# Altium schematic symbol library Socket Card.SchLib: 20 symbols
Pins are listed as number, name and electrical type; pins without a type are passive.

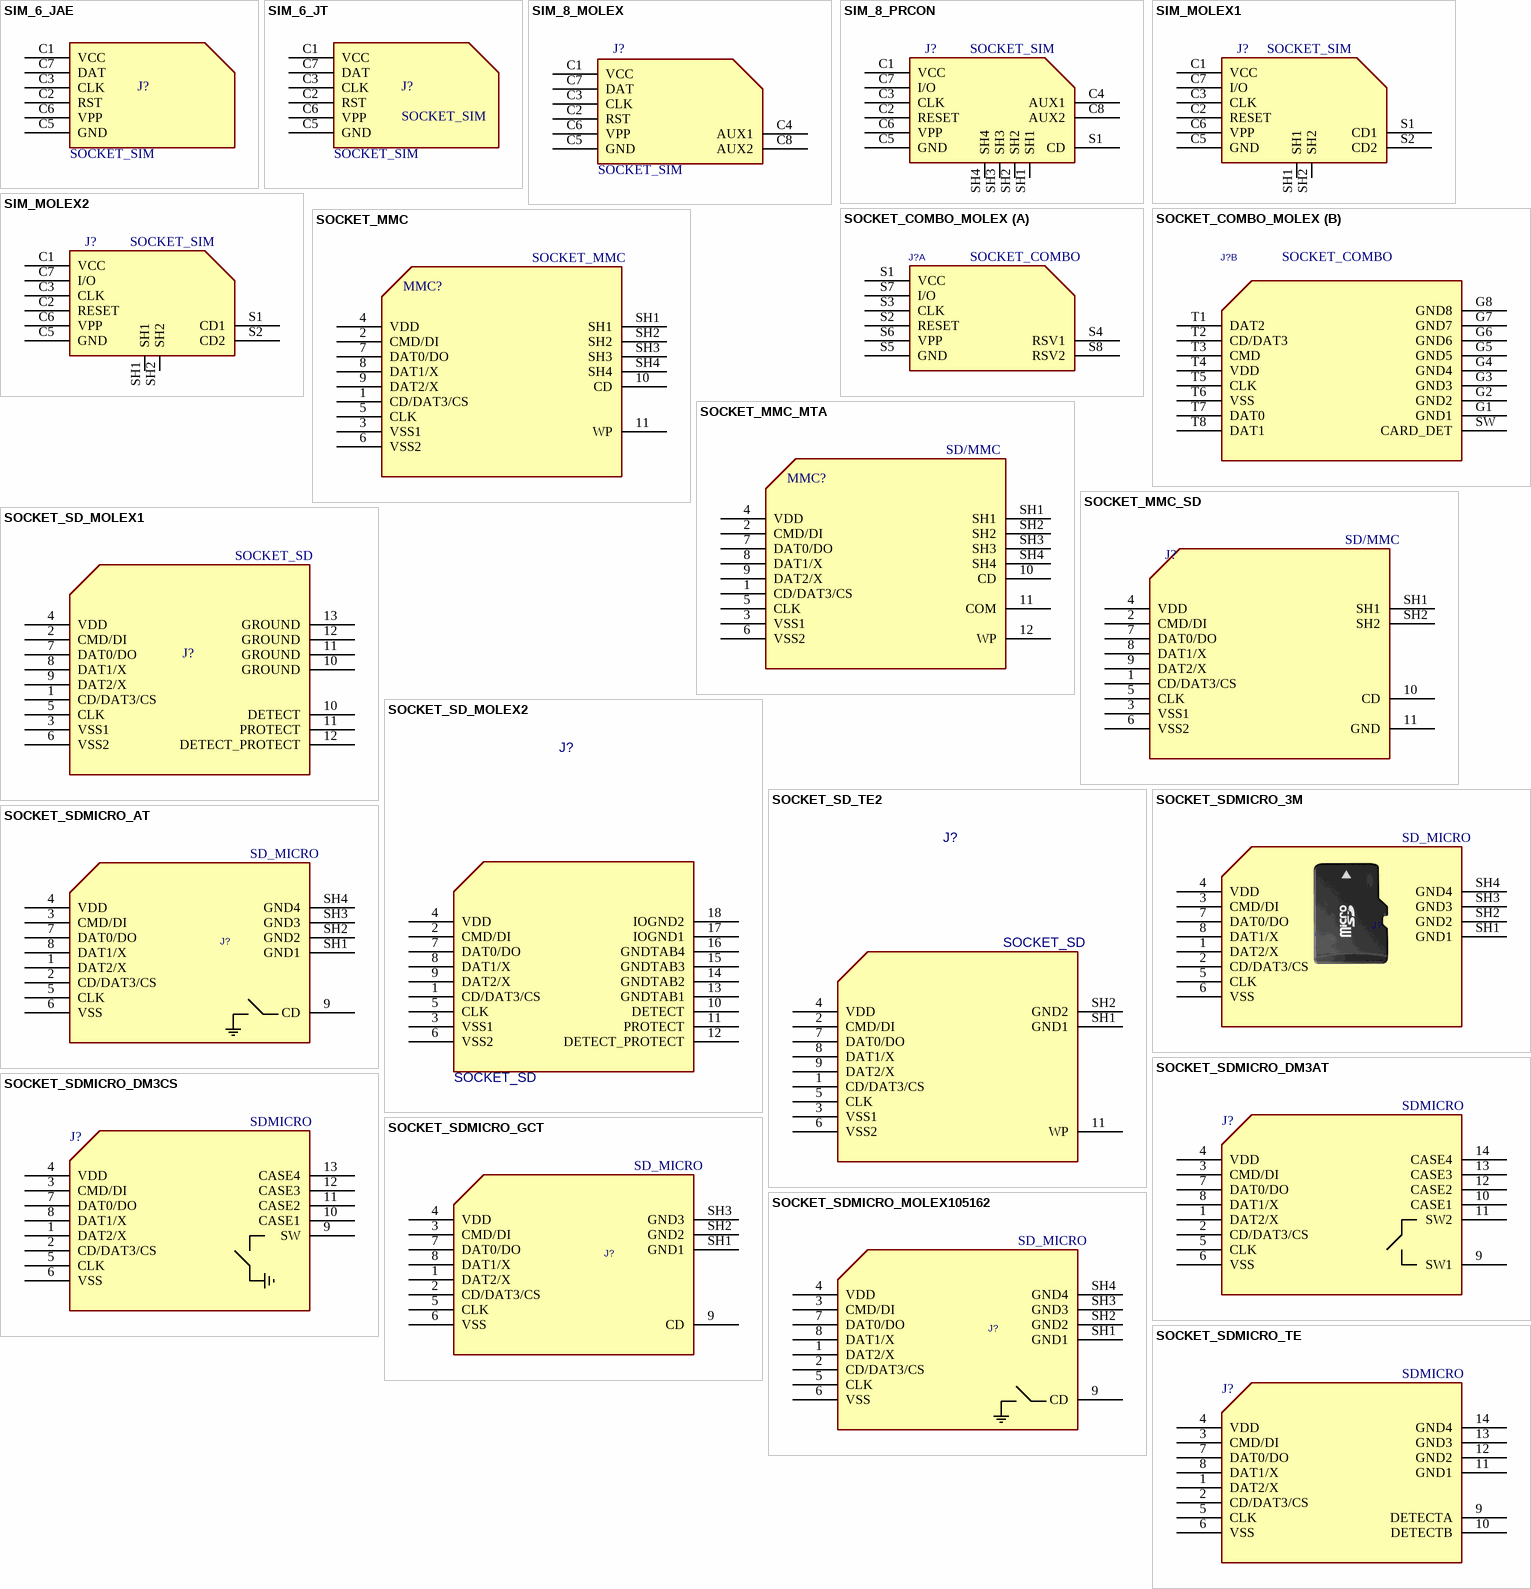
[diagram p0: symbols SIM_6_JAE to SOCKET_SDMICRO_TE]

## SIM_6_JAE
designator J?, comment SOCKET_SIM
SOCKET, SIM MINI, Hinged Lid, exist on Iran; MANF_P#: SF7W006S1AE1000; MANF: JAE; PARAM: Hinged Lid; PRICE: 3$; VALUE: SOCKET_SIM
footprint SIM_MINI_6
pins: C1 VCC, C2 RST, C3 CLK, C5 GND, C6 VPP, C7 DAT

## SIM_6_JT
designator J?, comment SOCKET_SIM
SOCKET, SIM MINI, PUSH-PULL, exist on Iran; MANF: JTCONN; MANF_P#: -; PRICE: 750toman@roboeq; VALUE: SOCKET_SIM
footprint SIM_MINI_6JT (SIM MINI, JTCONN)
pins: C1 VCC, C2 RST, C3 CLK, C5 GND, C6 VPP, C7 DAT

## SIM_8_MOLEX
designator J?, comment SOCKET_SIM
SOCKET, SIM MINI, with Ejector, exist on Iran; MANF: MOLEX; MANF_P#: 91228-3001; VALUE: SOCKET_SIM
footprint SIM_MINI_8_MOLEX (SIM 8P, MOLEX 91228-3001, 2.54mm Pitch ChipSIM Connector with Ejector, 6 Circuits, without Pegs, Yellow Button)
pins: C1 VCC, C2 RST, C3 CLK, C4 AUX1, C5 GND, C6 VPP, C7 DAT, C8 AUX2

## SIM_8_PRCON
designator J?, comment SOCKET_SIM
SOCKET, SIM MINI, PUSH-PUSH, exist on Iran; MANF: PROCONN, GCT; MANF_P#: SPPN08-A0-1080, SIM4056; PRICE: 2000t@JAVAN, 2500toman@eca; VALUE: SOCKET_SIM
footprint SIM_MINI_GCT (SIM MINI, GCT SIM4056 pitch: 1.27mm 26.3x19.3mm)
pins: C1 VCC, C2 RESET, C3 CLK, C4 AUX1, C5 GND, C6 VPP, C7 I/O, C8 AUX2, S1 CD, SH1, SH2, SH3, SH4

## SIM_MOLEX1
designator J?, comment SOCKET_SIM
SOCKET, SIM MINI, w/o Locator; MANF: Molex, ATTEND; MANF_P#: 47553-0001, 115A-ADA0-R02; PRICE: 1=2.94, 10=2.822, 25=2.5868, 50=2.4694, 100=2.3518, 250=2.05784 (USD); VALUE: SOCKET_SIM
footprint SIM_MINI_MOLEX1 (SIM MINI, MOLEX PUSH PUSH pitch: 1.27mm 26.3x19.3mm)
pins: C1 VCC, C2 RESET, C3 CLK, C5 GND, C6 VPP, C7 I/O, S1 CD1, S2 CD2, SH1, SH2

## SIM_MOLEX2
designator J?, comment SOCKET_SIM
SOCKET, SIM MINI, with Locator; MANF: Molex; MANF_P#: 47553-1001; PRICE: 1=2.94, 10=2.822, 25=2.5868, 50=2.4694, 100=2.3518, 250=2.05784 (USD); VALUE: SOCKET_SIM
footprint SIM_MINI_MOLEX2 (SIM MINI, with Locator, MOLEX 47553-1001)
pins: C1 VCC, C2 RESET, C3 CLK, C5 GND, C6 VPP, C7 I/O, S1 CD1, S2 CD2, SH1, SH2

## SOCKET_COMBO_MOLEX
designator J?, comment SOCKET_COMBO
SOCKET, MICROSIM+SD, MOLEX 104168-1620; MANF: MOLEX; MANF_P#: 104168-1620; VALUE: SOCKET_COMBO
footprint SIMCOMBO_MOLEX (MOLEX MICROSIM+SD SOCKET 104168-1620)
part A pins: S1 VCC, S2 RESET, S3 CLK, S4 RSV1, S5 GND, S6 VPP, S7 I/O, S8 RSV2
part B pins: G1 GND1, G2 GND2, G3 GND3, G4 GND4, G5 GND5, G6 GND6, G7 GND7, G8 GND8, SW CARD_DET, T1 DAT2, T2 CD/DAT3, T3 CMD, T4 VDD, T5 CLK, T6 VSS, T7 DAT0, T8 DAT1
part B text: micro SD

## SOCKET_MMC
designator MMC?
MMC/SD Card; VALUE: SOCKET_MMC
footprint MMC
pins: 1 CD/DAT3/CS, 2 CMD/DI, 3 VSS1, 4 VDD, 5 CLK, 6 VSS2, 7 DAT0/DO, 8 DAT1/X, 9 DAT2/X, 10 CD, 11 WP, SH1, SH2, SH3, SH4

## SOCKET_MMC_MTA
designator MMC?, comment SD/MMC
MMC/SD Card; MANF_P#: SDC-W25PB-09; MANF: Morethanall; VALUE: SD/MMC
footprint MMC_MTA (SD/MMC Morethanall SDC-W25PB-09)
pins: 1 CD/DAT3/CS, 2 CMD/DI, 3 VSS1, 4 VDD, 5 CLK, 6 VSS2, 7 DAT0/DO, 8 DAT1/X, 9 DAT2/X, 10 CD, 11 COM, 12 WP, SH1, SH2, SH3, SH4

## SOCKET_MMC_SD
designator J?, comment SD/MMC
VALUE: SD/MMC
footprint MMC_SD
pins: 1 CD/DAT3/CS, 2 CMD/DI, 3 VSS1, 4 VDD, 5 CLK, 6 VSS2, 7 DAT0/DO, 8 DAT1/X, 9 DAT2/X, 10 CD, 11 GND, SH1, SH2

## SOCKET_SD_MOLEX1
designator J?, comment SOCKET_SD
MANF_P#: 67600-8001; MANF: Molex; VALUE: SOCKET_SD
footprint SD_MOLEX (2.50mm Pitch, SD Memory Card Connector, Standard-Mount, Ultra Low Profile, with  PCB Locator, without Mylar, molex 676008001)
pins: 1 CD/DAT3/CS, 2 CMD/DI, 3 VSS1, 4 VDD, 5 CLK, 6 VSS2, 7 DAT0/DO, 8 DAT1/X, 9 DAT2/X, 10 GROUND, 10 DETECT, 11 GROUND, 11 PROTECT, 12 GROUND, 12 DETECT_PROTECT, 13 GROUND

## SOCKET_SD_MOLEX2
designator J?, comment SOCKET_SD
SD MEMORY CARD CONNECTOR RT ANGLE THRU HOLE PUSH-PUSH; MANF: MOLEX; DESC: DESCRIPTION; MANF_P#: 67840-8001; ASSEMBLY: ASSEMBLY; PARAM: PARAM; PRICE: 4.3$; VALUE: SOCKET_SD
footprint SD_MOLEX2 (MOLEX_SD_67840)
pins: 1 CD/DAT3/CS, 2 CMD/DI, 3 VSS1, 4 VDD, 5 CLK, 6 VSS2, 7 DAT0/DO, 8 DAT1/X, 9 DAT2/X, 10 DETECT, 11 PROTECT, 12 DETECT_PROTECT, 13 GNDTAB1, 14 GNDTAB2, 15 GNDTAB3, 16 GNDTAB4, 17 IOGND1, 18 IOGND2

## SOCKET_SD_TE2
designator J?, comment SOCKET_SD
SD MEMORY CARD CONNECTOR RT ANGLE THRU HOLE PUSH-PUSH; MANF: TE; DESC: DESCRIPTION; MANF_P#: 1734472; ASSEMBLY: ASSEMBLY; PARAM: PARAM; PRICE: -; VALUE: SOCKET_SD
footprint SD_TE2 (TE 1734472)
pins: 1 CD/DAT3/CS, 2 CMD/DI, 3 VSS1, 4 VDD, 5 CLK, 6 VSS2, 7 DAT0/DO, 8 DAT1/X, 9 DAT2/X, 11 WP, SH1 GND1, SH2 GND2

## SOCKET_SDMICRO_3M
designator J?, comment SD_MICRO
SD MICRO, 3M 29-08-05WB-MG; MANF: 3M/MOLEX; MANF_P#: 29-08-05WB-MG; VALUE: SD_MICRO
footprint SDMICRO_3MOLEX (MicroSD Socket (Molex 500873-080X) (3M 2908-05WB-MG))
pins: 1 DAT2/X, 2 CD/DAT3/CS, 3 CMD/DI, 4 VDD, 5 CLK, 6 VSS, 7 DAT0/DO, 8 DAT1/X, SH1 GND1, SH2 GND2, SH3 GND3, SH4 GND4

## SOCKET_SDMICRO_AT
designator J?, comment SD_MICRO
SD MICRO exist in Iran, Attend 112J-TDAR-R01; PARAM: push-push; MANF: Attend; MANF_P#: 112J-TDAR-R01; VALUE: SD_MICRO
footprint SDMICRO_AT (SDMICRO exist on Iran, Attend 112J-TDAR-R01)
pins: 1 DAT2/X, 2 CD/DAT3/CS, 3 CMD/DI, 4 VDD, 5 CLK, 6 VSS, 7 DAT0/DO, 8 DAT1/X, 9 CD, SH1 GND1, SH2 GND2, SH3 GND3, SH4 GND4

## SOCKET_SDMICRO_DM3AT
designator J?, comment SDMICRO
CONN MICRO SD R/A PUSH-PUSH SMD; MANF: Hirose; MANF_P#: DM3AT-SF-PEJM5; PRICE: 2.6$; VALUE: SDMICRO
footprint SDMICRO_DM3AT
pins: 1 DAT2/X, 2 CD/DAT3/CS, 3 CMD/DI, 4 VDD, 5 CLK, 6 VSS, 7 DAT0/DO, 8 DAT1/X, 9 SW1, 10 CASE1, 11 SW2, 12 CASE2, 13 CASE3, 14 CASE4

## SOCKET_SDMICRO_DM3CS
designator J?, comment SDMICRO
CONN MICRO SD R/A HING TYPE SMD; MANF: Hirose Electric Co Ltd; MANF_P#: DM3C-SF; PRICE: 1=2.36, 10=1.96, 25=1.8152, 50=1.6368, 100=1.452, 250=1.2738, 500=1.1616 (USD); VALUE: SDMICRO
footprint SDMICRO_DM3CS
pins: 1 DAT2/X, 2 CD/DAT3/CS, 3 CMD/DI, 4 VDD, 5 CLK, 6 VSS, 7 DAT0/DO, 8 DAT1/X, 9 SW, 10 CASE1, 11 CASE2, 12 CASE3, 13 CASE4

## SOCKET_SDMICRO_GCT
designator J?, comment SD_MICRO
SD MICRO, 3M 29-08-05WB-MG; MANF: GCT; MANF_P#: MEM2050; VALUE: SD_MICRO
footprint SDMICRO_3M (micro SD 3M 29-08-05WB-MG)
pins: 1 DAT2/X, 2 CD/DAT3/CS, 3 CMD/DI, 4 VDD, 5 CLK, 6 VSS, 7 DAT0/DO, 8 DAT1/X, 9 CD, SH1 GND1, SH2 GND2, SH3 GND3

## SOCKET_SDMICRO_MOLEX105162
designator J?, comment SD_MICRO
SD MICRO; MANF: MOLEX; MANF_P#: 1051620001; PARAM: Push In, Pull Out; PRICE: 1$; VALUE: SD_MICRO
footprint SDMICRO_MOLEX105162 (MicroSD Socket Molex 105162)
pins: 1 DAT2/X, 2 CD/DAT3/CS, 3 CMD/DI, 4 VDD, 5 CLK, 6 VSS, 7 DAT0/DO, 8 DAT1/X, 9 CD, SH1 GND1, SH2 GND2, SH3 GND3, SH4 GND4

## SOCKET_SDMICRO_TE
designator J?, comment SDMICRO
MANF_P#: 1871602-2; MANF: TE; VALUE: SDMICRO
footprint SDMICRO_TE (SD CARD SOCKET, Micro, Push/Push, Top Mount, With Locating Post, TE 1871602-2)
pins: 1 DAT2/X, 2 CD/DAT3/CS, 3 CMD/DI, 4 VDD, 5 CLK, 6 VSS, 7 DAT0/DO, 8 DAT1/X, 9 DETECTA, 10 DETECTB, 11 GND1, 12 GND2, 13 GND3, 14 GND4